# Altium schematic symbol library TLV9152IDR.SchLib: 2 symbols
Pins are listed as number, name and electrical type; pins without a type are passive.

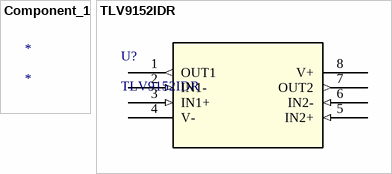
[diagram p0: symbols Component_1 to TLV9152IDR]

## Component_1
designator *

## TLV9152IDR
designator U?
Dual, 16-V, 4.5-MHz, low-power operational amplifier 8-SOIC -40 to 125; Manufacturer_Name: Texas Instruments; Copyright: Copyright (C) 2025 Ultra Librarian. All rights reserved.; Manufacturer_Part_Number: TLV9152IDR; Datasheet: https://www.ti.com/lit/gpn/tlv9152; RefDes: RefDes; Type: Type
footprint SOIC8_D_TEX
pins: 1 OUT1 (out), 2 IN1- (in), 3 IN1+ (in), 4 V- (power), 5 IN2+ (in), 6 IN2- (in), 7 OUT2 (out), 8 V+ (power)